# Altium footprint library PcbLib1.PcbLib: 26 footprints (part 2 of 2)
Each footprint in its own frame and in the unit in brackets; x right, y up, seen from the top. Pads: shape width x height; smd on the part's side, far side on the other; paste and mask are expansions set on the pad; w line width, h text height; cw(c..) or ccw(c..) is an arc to the next point about the centre after c.
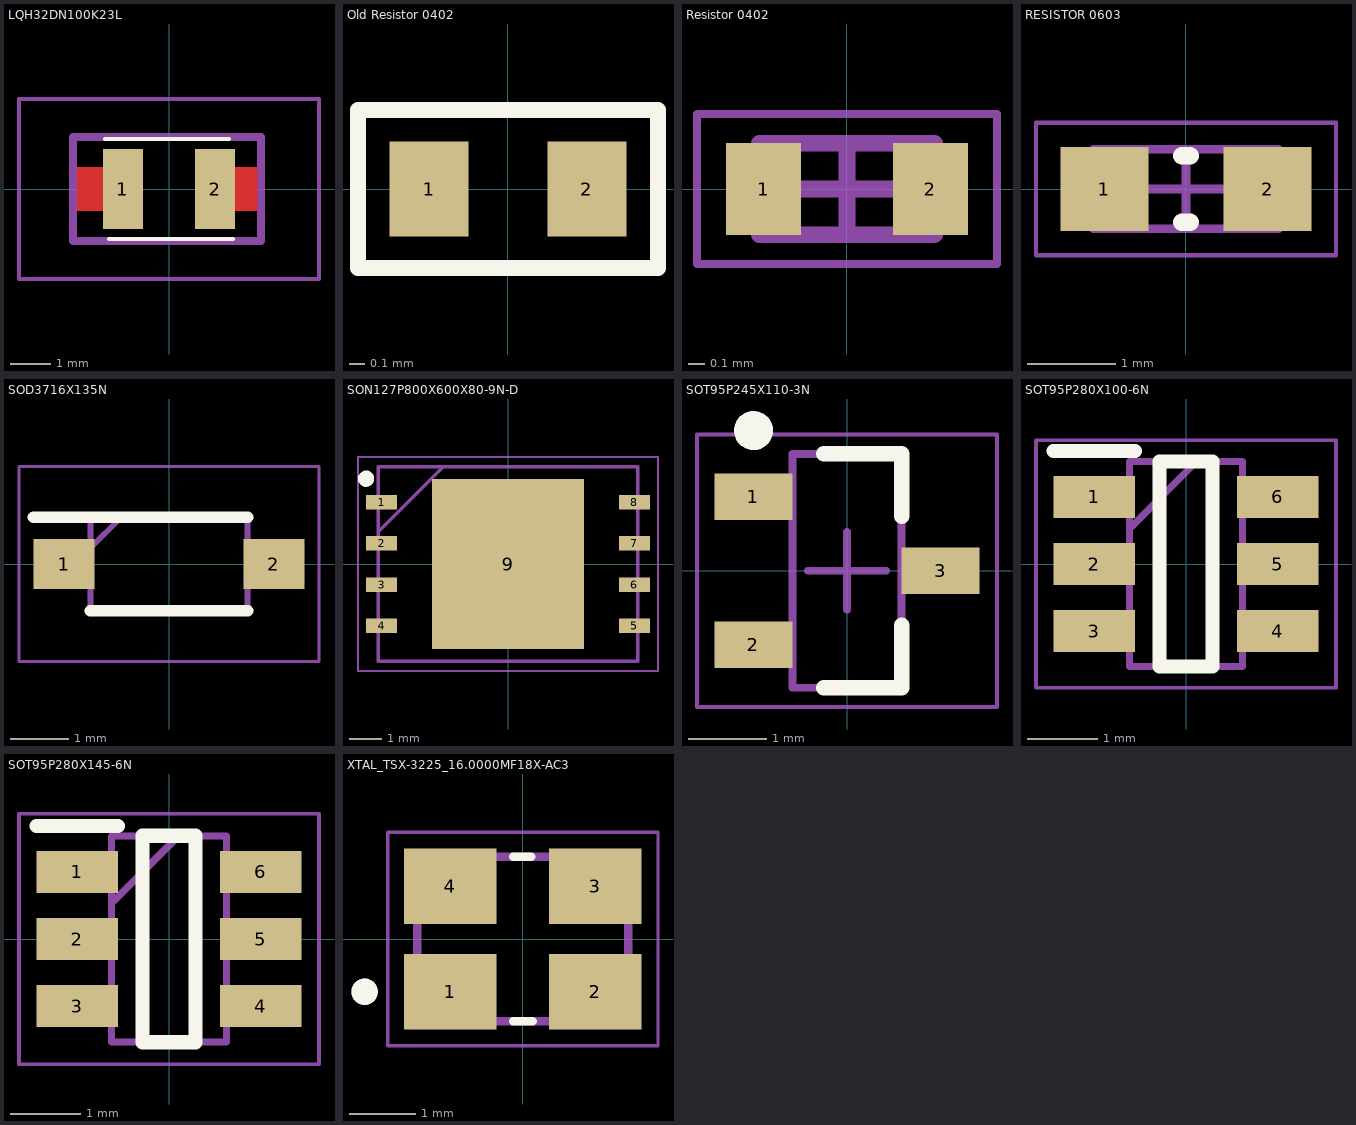
[diagram p1: the footprints below, top view; thin cyan lines are the x and y axes]

## LQH32DN100K23L [mm]
pads (2):
  rect 1x2 smd: 1(-1.15,0) 2(1.15,0)
Top Layer:
  region: -1.5,0.55 -2.3,0.55 -2.3,-0.55 -1.5,-0.55
  region: 2.2,0.55 1.4,0.55 1.4,-0.55 2.2,-0.55
Top Overlay:
  lines w0.1: -1.6,1.25 1.5,1.25 ; -1.5,-1.25 1.6,-1.25
Mechanical 13:
  lines w0.2: -2.4,-1.3 -2.4,1.3 2.3,1.3 2.3,-1.3 -2.4,-1.3
Mechanical 15:
  lines w0.1: -3.75,-2.25 3.75,-2.25 3.75,2.25 -3.75,2.25 -3.75,-2.25
3D body "LQH32CN100K33L.stp": height 2.2, standoff 0, extent -1.6,-1.25 1.6,1.25

## Old Resistor 0402 [mm]
pads (2):
  rect 0.5x0.6 smd: 1(-0.5,0) 2(0.5,0)
Top Overlay:
  lines w0.1: -0.95,-0.5 0.95,-0.5 0.95,0.5 -0.95,0.5 -0.95,0 -0.95,-0.5

## Resistor 0402 [mm] "Chip Resistor 0402"
height 0.35
pads (2):
  rect 0.45x0.55 smd: 1(-0.5,0) 2(0.5,0)
Mechanical 13:
  lines w0.1: -0.525,-0.275 -0.525,0.275 0.525,0.275 0.525,-0.275 -0.525,-0.275
Mechanical 15:
  lines w0.05: -0.9,-0.45 -0.9,0.45 0.9,0.45 0.9,-0.45 -0.9,-0.45
  lines w0.1: -0.275,0 0.275,0 ; 0,-0.275 0,0.275
3D body "Chip Resistor 0402.step": height 0.35, standoff 0, extent -0.525,-0.275 0.525,0.275

## RESISTOR 0603 [mm] "Chip Resistor 0603"
height 0.6
pads (2):
  rect 1x0.95 smd: 1(-0.925,0) 2(0.925,0)
Top Overlay:
  lines w0.2: -0.05,-0.375 0.05,-0.375 ; -0.05,0.375 0.05,0.375
Mechanical 13:
  lines w0.1: -1.05,-0.45 1.05,-0.45 1.05,0.45 -1.05,0.45 -1.05,-0.45
Mechanical 15:
  lines w0.05: -1.7,-0.75 1.7,-0.75 1.7,0.75 -1.7,0.75 -1.7,-0.75
  lines w0.1: -0.45,0 0.45,0 ; 0,-0.45 0,0.45
3D body: height 0.6, standoff 0, extent 0.45,-0.45 1.05,0.45
3D body: height 0.6, standoff 0, extent -1.05,-0.45 -0.45,0.45
3D body: height 0.6, standoff 0, extent -0.45,-0.45 0.45,0.45

## SOD3716X135N [mm]
pads (2):
  rect 1.05x0.85 smd: 1(-1.8,0) 2(1.8,0)
Top Overlay:
  lines w0.2: -2.325,0.8 1.35,0.8 ; -1.35,-0.8 1.35,-0.8
Mechanical 13:
  lines w0.1: -1.35,0.275 -0.825,0.8 ; -1.35,-0.8 1.35,-0.8 1.35,0.8 -1.35,0.8 -1.35,-0.8
Mechanical 15:
  lines w0.05: -2.575,-1.675 2.575,-1.675 2.575,1.675 -2.575,1.675 -2.575,-1.675
3D body "B5819W-TP.stp": height 1.35, standoff 0, extent -1.85,-0.8 1.85,0.8

## SON127P800X600X80-9N-D [mm]
pads (9):
  rect 0.95x0.45 smd: 1(-3.9,1.905) 2(-3.9,0.635) 3(-3.9,-0.635) 4(-3.9,-1.905) 5(3.9,-1.905) 6(3.9,-0.635) 7(3.9,0.635) 8(3.9,1.905)
  rect 4.7x5.25 smd: 9(0,0)
Top Overlay:
  circle w0.25: c-4.375,2.63 r0.125
Mechanical 13:
  lines w0.1: -4,1 -2,3 ; -4,-3 -4,3 4,3 4,-3 -4,-3
Mechanical 15:
  lines w0.05: -4.625,-3.3 -4.625,3.3 4.625,3.3 4.625,-3.3 -4.625,-3.3
3D body "W25N01GVZEIG.stp": height 0.8, standoff 0, extent -4.05,-3 4.05,3

## SOT95P245X110-3N [mm] "SOT23, 3-Leads, Body 2.90x2.45mm, Pitch 0.95mm, IPC Medium Density"
height 1.1
pads (3):
  rect 1x0.6 smd: 1(-1.2,0.95) 2(-1.2,-0.95) 3(1.2,0)
Top Overlay:
  circle w0.25: c-1.2,1.8 r0.125
  lines w0.2: -0.3,-1.5 0.7,-1.5 0.7,-0.7 ; -0.3,1.5 0.7,1.5 0.7,0.7
Mechanical 13:
  lines w0.1: -0.7,-1.5 -0.7,1.5 0.7,1.5 0.7,-1.5 -0.7,-1.5
Mechanical 15:
  lines w0.05: -1.925,-1.75 -1.925,1.75 1.925,1.75 1.925,-1.75 -1.925,-1.75
  lines w0.1: -0.5,0 0.5,0 ; 0,-0.5 0,0.5
3D body "SOT95P245X110-3N.step": height 1.1, standoff 0, extent -1.3,-1.5 1.3,1.5

## SOT95P280X100-6N [mm]
pads (6):
  rect 1.15x0.6 smd: 1(-1.3,0.95) 2(-1.3,0) 3(-1.3,-0.95) 4(1.3,-0.95) 5(1.3,0) 6(1.3,0.95)
Top Overlay:
  lines w0.2: -1.875,1.6 -0.725,1.6 ; -0.375,-1.45 -0.375,1.45 0.375,1.45 0.375,-1.45 -0.375,-1.45
Mechanical 13:
  lines w0.1: -0.8,0.5 0.15,1.45 ; -0.8,-1.45 -0.8,1.45 0.8,1.45 0.8,-1.45 -0.8,-1.45
Mechanical 15:
  lines w0.05: -2.125,-1.75 -2.125,1.75 2.125,1.75 2.125,-1.75 -2.125,-1.75
3D body "MP2359DJ-LF-Z.stp": height 1, standoff 0, extent -1.4,-1.45 1.4,1.45

## SOT95P280X145-6N [mm]
pads (6):
  rect 1.15x0.6 smd: 1(-1.3,0.95) 2(-1.3,0) 3(-1.3,-0.95) 4(1.3,-0.95) 5(1.3,0) 6(1.3,0.95)
Top Overlay:
  lines w0.2: -1.875,1.6 -0.725,1.6 ; -0.375,-1.462 -0.375,1.462 0.375,1.462 0.375,-1.462 -0.375,-1.462
Mechanical 13:
  lines w0.1: -0.812,0.512 0.138,1.462 ; -0.812,-1.462 -0.812,1.462 0.812,1.462 0.812,-1.462 -0.812,-1.462
Mechanical 15:
  lines w0.05: -2.125,-1.775 -2.125,1.775 2.125,1.775 2.125,-1.775 -2.125,-1.775
3D body "USBLC6-2SC6.stp": height 1.45, standoff 0, extent -1.4,-1.462 1.4,1.462

## XTAL_TSX-3225_16.0000MF18X-AC3 [mm]
pads (4):
  rect 1.4x1.15 smd: 1(-1.1,-0.8) 2(1.1,-0.8) 3(1.1,0.8) 4(-1.1,0.8)
Top Overlay:
  circle w0.2: c-2.4,-0.8 r0.1
  lines w0.127: -0.15,-1.25 0.15,-1.25 ; -0.15,1.25 0.125,1.25
Mechanical 13:
  circle w0.2: c-2.4,-0.8 r0.1
  lines w0.127: -1.6,-1.25 -1.6,1.25 1.6,1.25 1.6,-1.25 -1.6,-1.25
Mechanical 15:
  lines w0.05: -2.05,-1.62 -2.05,1.62 2.05,1.62 2.05,-1.62 -2.05,-1.62